# EAGLE library part LT1506CS8-3.3#PBF (library LT1506CS8-3.3#PBF)
Linear Technology, LT1506CS8-3.3#PBF Step-Down Switching Regulator 4.5A Adj./Fixed, Maximum of 3.3 V, 8-Pin SOIC Source: Datasheet <https://componentsearchengine.com/Datasheets/1/LT1506CS8-3.3#PBF.pdf>
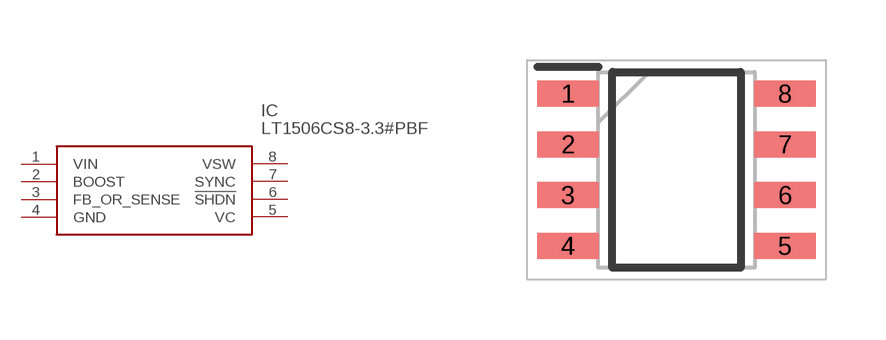
[diagram p0: symbol with the pads of SOIC127P599X175-8N; footprint SOIC127P599X175-8N]

Designator prefix IC

## LT1506CS8-3.3#PBF (Description: Linear Technology, LT1506CS8-3.3#PBF Step-Down Switching Regulator 4.5A Adj./Fixed, Maximum of 3.3 V, 8-Pin SOIC; Height: 1.752mm; Manufacturer_Name: Analog Devices; Manufacturer_Part_Number: LT1506CS8-3.3#PBF; Mouser_Part_Number: 584-LT1506CS8-3.3PBF; Mouser_Price-Stock: https://www.mouser.com/Search/Refine.aspx?Keyword=584-LT1506CS8-3.3PBF)  [SOIC127P599X175-8N]
1  VIN
2  BOOST
3  FB_OR_SENSE
4  GND
5  VC
6  !SHDN
7  SYNC
8  VSW

## Footprint SOIC127P599X175-8N (pad centres in mm)
S8-ren3
smd 1.526 x 0.65: 1 -2.712,1.905; 2 -2.712,0.635; 3 -2.712,-0.635; 4 -2.712,-1.905; 5 2.712,-1.905; 6 2.712,-0.635; 7 2.712,0.635; 8 2.712,1.905